# EAGLE library part TEENSY41 (library teensy)
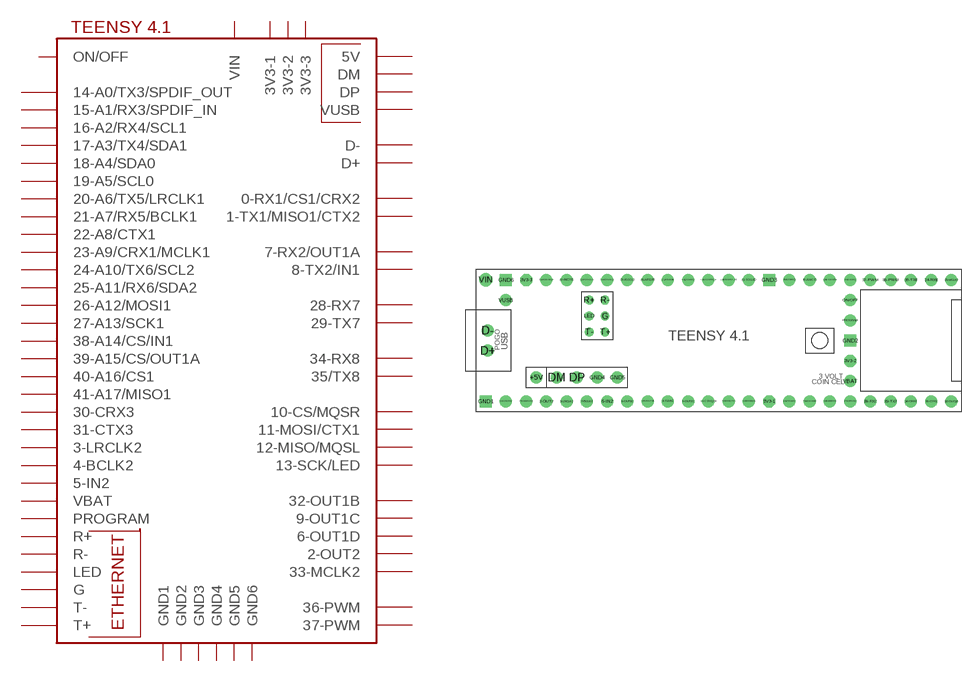
[diagram p2: symbol with the pads of TEENSY41; footprint TEENSY41]

Designator prefix -

## TEENSY41  [TEENSY41]
0-RX1/CS1/CRX2  0-RX1/CS1/CRX2
1-TX1/MISO1/CTX2  1-TX1/MISO1/CTX2
2-OUT2  2-OUT2
3-LRCLK2  3-LRCLK2
3V3-1  3V3-1
3V3-2  3V3-2
3V3-3  3V3-3
4-BCLK2  4-BCLK2
5-IN2  5-IN2
6-OUT1D  6-OUT1D
7-RX2/OUT1A  7-RX2/OUT1A
8-TX2/IN1  8-TX2/IN1
9-OUT1C  9-OUT1C
10-CS\MQSR  10-CS/MQSR
11-MOSI/CTX1  11-MOSI/CTX1
12-MISO/MQSL  12-MISO/MQSL
13-SCK/LED  13-SCK/LED
14-A0/TX3/SPDIF_OUT  14-A0/TX3/SPDIF_OUT
15-A1/RX3/SPDIF_IN  15-A1/RX3/SPDIF_IN
16-A2/RX4/SCL1  16-A2/RX4/SCL1
17-A3/TX4/SDA1  17-A3/TX4/SDA1
18-A4/SDA0  18-A4/SDA0
19-A5/SCL0  19-A5/SCL0
20-A6/TX5/LRCLK1  20-A6/TX5/LRCLK1
21-A7/RX5/BCLK1  21-A7/RX5/BCLK1
22-A8/CTX1  22-A8/CTX1
23-A9/CRX1/MCLK1  23-A9/CRX1/MCLK1
24-A10/TX6/SCL2  24-A10/TX6/SCL2
25-A11/RX6/SDA2  25-A11/RX6/SDA2
26-A12/MOSI1  26-A12/MOSI1
27-A13/SCK1  27-A13/SCK1
28-RX7  28-RX7
29-TX7  29-TX7
30-CRX3  30-CRX3
31-CTX3  31-CTX3
32-OUT1B  32-OUT1B
33-MCLK2  33-MCLK2
34-RX8  34-RX8
35-TX8  35/TX8
36-PWM  36-PWM
37-PWM  37-PWM
38-A14/CS/IN1  38-A14/CS/IN1
39-A15/CS/OUT1A  39-A15/CS/OUT1A
40-A16/CS1  40-A16/CS1
41-A17/MISO1  41-A17/MISO1
+5V  5V
D+  D+
D-  D-
DM  DM
DP  DP
G  G
GND1  GND1
GND2  GND2
GND3  GND3
GND4  GND4
GND5  GND5
GND6  GND6
LED  LED
ON/OFF  ON/OFF
PROGRAM  PROGRAM
R+  R+
R-  R-
T+  T+
T-  T-
VBAT  VBAT
VIN  VIN
VUSB  VUSB

## Footprint TEENSY41 (pad centres in mm)
drill 1: 0-RX1/CS1/CRX2 -27.94,-7.62; 1-TX1/MISO1/CTX2 -25.4,-7.62; 2-OUT2 -22.86,-7.62; 3-LRCLK2 -20.32,-7.62; 4-BCLK2 -17.78,-7.62; 5-IN2 -15.24,-7.62; 6-OUT1D -12.7,-7.62; 7-RX2/OUT1A -10.16,-7.62; 8-TX2/IN1 -7.62,-7.62; 9-OUT1C -5.08,-7.62; 10-CS\MQSR -2.54,-7.62; 11-MOSI/CTX1 0,-7.62; 12-MISO/MQSL 2.54,-7.62; 13-SCK/LED 2.54,7.62; 14-A0/TX3/SPDIF_OUT 0,7.62; 15-A1/RX3/SPDIF_IN -2.54,7.62; 16-A2/RX4/SCL1 -5.08,7.62; 17-A3/TX4/SDA1 -7.62,7.62; 18-A4/SDA0 -10.16,7.62; 19-A5/SCL0 -12.7,7.62; 20-A6/TX5/LRCLK1 -15.24,7.62; 21-A7/RX5/BCLK1 -17.78,7.62; 22-A8/CTX1 -20.32,7.62; 23-A9/CRX1/MCLK1 -22.86,7.62; 24-A10/TX6/SCL2 7.62,-7.62; 25-A11/RX6/SDA2 10.16,-7.62; 26-A12/MOSI1 12.7,-7.62; 27-A13/SCK1 15.24,-7.62; 28-RX7 17.78,-7.62; 29-TX7 20.32,-7.62; 30-CRX3 22.86,-7.62; 31-CTX3 25.4,-7.62; 32-OUT1B 27.94,-7.62; 33-MCLK2 27.94,7.62; 34-RX8 25.4,7.62; 35-TX8 22.86,7.62; 36-PWM 20.32,7.62; 37-PWM 17.78,7.62; 38-A14/CS/IN1 15.24,7.62; 39-A15/CS/OUT1A 12.7,7.62; 40-A16/CS1 10.16,7.62; 41-A17/MISO1 7.62,7.62; +5V -24.13,-4.62; D+ -30.25,-1.27; D- -30.25,1.27; DM -21.59,-4.62; DP -19.05,-4.62; GND4 -16.51,-4.62; GND5 -13.97,-4.62; ON/OFF 15.24,5.08; PROGRAM 15.24,2.54; VBAT 15.24,-5.08; VUSB -27.94,5.08
drill 1 octagon: 3V3-1 5.08,-7.62; 3V3-2 15.24,-2.54; 3V3-3 -25.4,7.62
drill 0.6: G -15.51,3.08; LED -17.51,3.08; R+ -17.51,5.08; R- -15.51,5.08; T+ -15.51,1.08; T- -17.51,1.08
drill 1 square: GND1 -30.48,-7.62; GND2 15.24,0; GND3 5.08,7.62; GND6 -27.94,7.62
drill 1 pad 1.676: VIN -30.48,7.62